# EAGLE library part ADS1220 (library My_TI)
ADS1220 Low-Power, Low-Noise, 24-Bit, ADC for Small-Signal Sensors. • Wide Supply Range: 2.3 V to 5.5 V. • Programmable Gain: 1 V/V to 128 V/V • Programmable Data Rates: Up to 2 kSPS • Internal 2.048-V Reference: 5 ppm/°C (typ) Drift • Internal 2% Accurate Oscillator • Internal Temperature Sensor: 0.5°C (typ) Accuracy Datasheet <http://www.ti.com/lit/ds/symlink/ads1220.pdf>
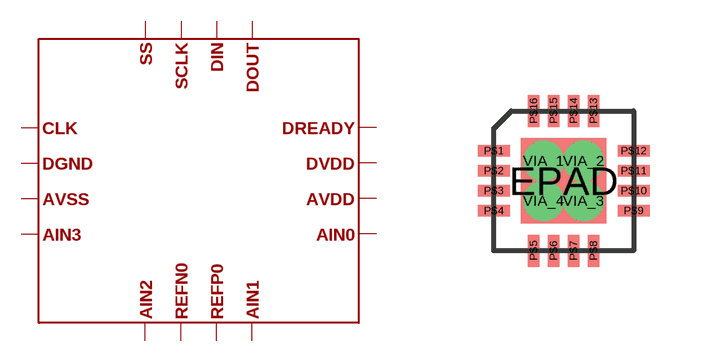
[diagram p54: symbol with the pads of VQFN16-3.5X3.5; footprint VQFN16-3.5X3.5]

Designator prefix -

## ADS1220  [VQFN16-3.5X3.5]
EPAD  P$3
P$1  P$1
P$2  P$2
P$3  P$3
P$4  P$4
P$5  P$5
P$6  P$6
P$7  P$7
P$8  P$8
P$9  P$9
P$10  P$10
P$11  P$11
P$12  P$12
P$13  P$13
P$14  P$14
P$15  P$15
P$16  P$16
VIA_1  P$3
VIA_2  P$3
VIA_3  P$3
VIA_4  P$3

## Footprint VQFN16-3.5X3.5 (pad centres in mm)
smd 2.14 x 2.14: EPAD 0,0
smd 0.8 x 0.28: P$1 -1.75,0.75; P$2 -1.75,0.25; P$3 -1.75,-0.25; P$4 -1.75,-0.75; P$9 1.75,-0.75; P$10 1.75,-0.25; P$11 1.75,0.25; P$12 1.75,0.75
smd 0.28 x 0.8: P$5 -0.75,-1.75; P$6 -0.25,-1.75; P$7 0.25,-1.75; P$8 0.75,-1.75; P$13 0.75,1.75; P$14 0.25,1.75; P$15 -0.25,1.75; P$16 -0.75,1.75
drill 0.5 pad 0.813: VIA_1 -0.5,0.5; VIA_2 0.5,0.5; VIA_3 0.5,-0.5; VIA_4 -0.5,-0.5